# Altium footprint library PC81710NIP1B.PcbLib: 1 footprints
Each footprint in its own frame and in the unit in brackets; x right, y up, seen from the top. Pads: shape width x height; smd on the part's side, far side on the other; paste and mask are expansions set on the pad; w line width, h text height; cw(c..) or ccw(c..) is an arc to the next point about the centre after c.
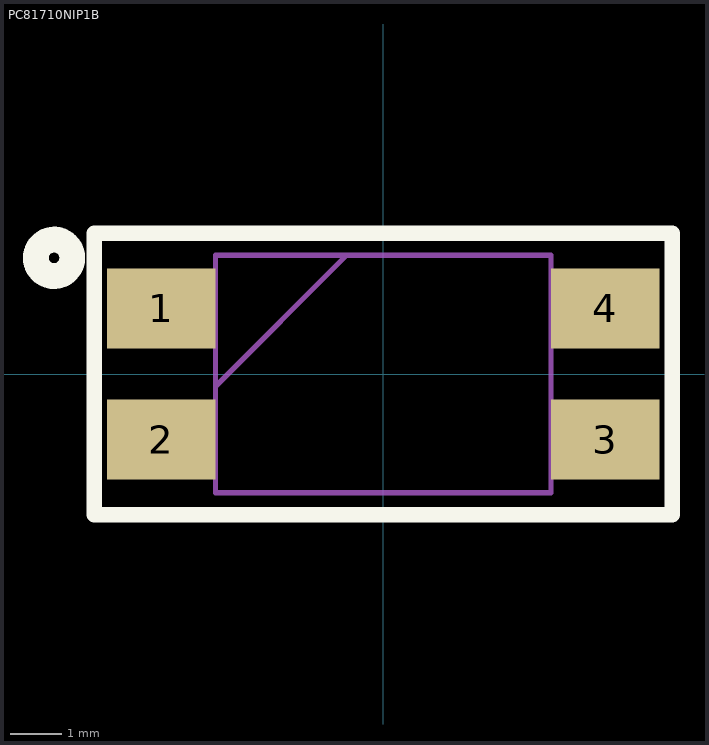
[diagram p0: the footprint, top view; thin cyan lines are the x and y axes]

## PC81710NIP1B [mm]
height 0.95
pads (4):
  rect 2.1x1.55 smd: 1(-4.3,1.27) 2(-4.3,-1.27) 3(4.3,-1.27) 4(4.3,1.27)
Top Overlay:
  circle w0.5: c-6.375,2.25 r0.354
  lines w0.3: -5.6,-2.725 -5.6,2.725 5.6,2.725 5.6,-2.725 -5.6,-2.725
Top Assembly:
  lines w0.1: -3.25,-0.24 -0.71,2.3 ; -3.25,-2.3 -3.25,2.3 3.25,2.3 3.25,-2.3 -3.25,-2.3
  text "'.Designator'" at 0,0 h0.7
3D body "PC81710NIP1B.stp": height 4.2, standoff 0, extent -4.8,-2.3 4.8,2.3